# EAGLE library part M16 (library 0Robin)
Papilio Wing A
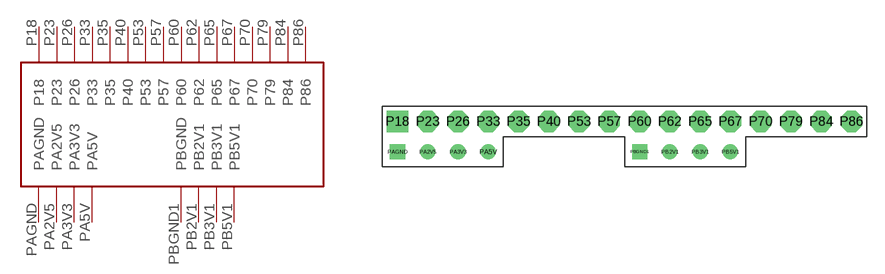
[diagram p4: symbol with the pads of 1X16; footprint 1X16]

Designator prefix -

## M16  [1X16]
P18  P18  pas
P23  P23  pas
P26  P26  pas
P33  P33  pas
P35  P35  pas
P40  P40  pas
P53  P53  pas
P57  P57  pas
P60  P60  pas
P62  P62  pas
P65  P65  pas
P67  P67  pas
P70  P70  pas
P79  P79  pas
P84  P84  pas
P86  P86  pas
PA2V5  PA2V5  pwr
PA3V3  PA3V3  pwr
PA5V  PA5V  pwr
PAGND  PAGND  pwr
PB2V1  PB2V1  pwr
PB3V1  PB3V1  pwr
PB5V1  PB5V1  pwr
PBGND1  PBGND  pwr

## Footprint 1X16 (pad centres in mm)
drill 0.254 pad 1.778 square: P18 -19.05,0
drill 0.254 pad 1.778 octagon: P23 -16.51,0; P26 -13.97,0; P33 -11.43,0; P35 -8.89,0; P40 -6.35,0; P53 -3.81,0; P57 -1.27,0; P60 1.27,0; P62 3.81,0; P65 6.35,0; P67 8.89,0; P70 11.43,0; P79 13.97,0; P84 16.51,0; P86 19.05,0
drill 0.254 pad 1.27 round: PA2V5 -16.51,-2.54; PA3V3 -13.97,-2.54; PA5V -11.43,-2.54; PB2V1 3.81,-2.54; PB3V1 6.35,-2.54; PB5V1 8.89,-2.54
drill 0.254 pad 1.27 square: PAGND -19.05,-2.54; PBGND1 1.27,-2.54